# EAGLE library part JDY-40 (library JDY-40_NRF24L01_SMD)
JDY-40 2.4G Remote Communication Module Wireless Serial Port Transmission Transceiver Module NRF24L01 Wireless Adapter - Item ID: 13191 - http://www.icstation.com/remote-communication-module-wireless-serial-port-transmission-transceiver-module-nrf24l01-wireless-adapter-p-13170.html
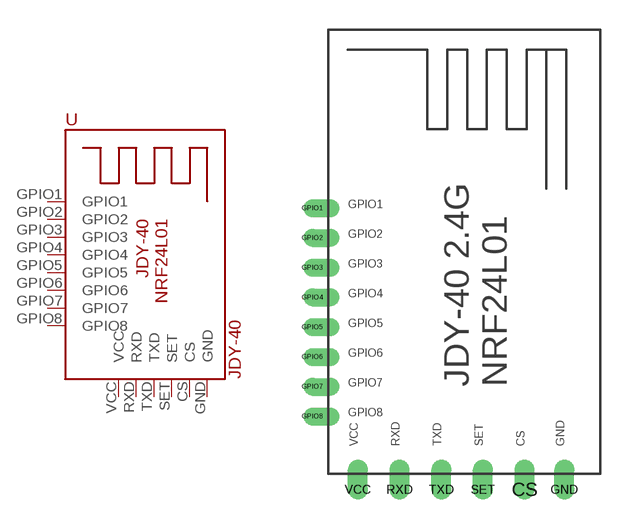
[diagram p0: symbol with the pads of SMD; footprint SMD]

Designator prefix -

## JDY-40  [SMD]
CS  CS  in
GND  GND  pwr
GPIO1  GPIO1
GPIO2  GPIO2
GPIO3  GPIO3
GPIO4  GPIO4
GPIO5  GPIO5
GPIO6  GPIO6
GPIO7  GPIO7
GPIO8  GPIO8
RXD  RXD  in
SET  SET  in
TXD  TXD  out
VCC  VCC  pwr

## Footprint SMD (pad centres in mm)
drill 0.5 pad 1 offset: CS 9.9,-23.2; GND 11.9,-23.2; RXD 3.6,-23.2; SET 7.8,-23.2; TXD 5.7,-23.2; VCC 1.5,-23.2
drill 0.4 pad 0.8 offset: GPIO1 -0.8,-9; GPIO2 -0.8,-10.5; GPIO3 -0.8,-12; GPIO4 -0.8,-13.5; GPIO5 -0.8,-15; GPIO6 -0.8,-16.5; GPIO7 -0.8,-18; GPIO8 -0.8,-19.5